# EAGLE library part AK4117 (library akm)
Digital Audio Receiver (DIR) Low Power, 24-Bit, 192 kHz
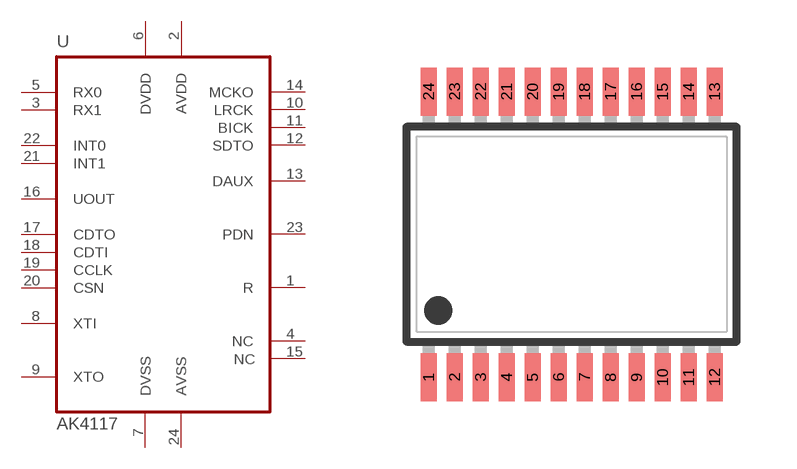
[diagram p7: symbol with the pads of VSOP24; footprint VSOP24]

Designator prefix U

## AK4117  [VSOP24]
1  R  pas
2  AVDD  pwr
3  RX1  in
4  NC  in
5  RX0  in
6  DVDD  pwr
7  DVSS  pwr
8  XTI  in
9  XTO  out
10  LRCK
11  BICK
12  SDTO  out
13  DAUX  out
14  MCKO  in
15  NC1  in
16  UOUT  out
17  CDTO  out
18  CDTI  in
19  CCLK  in
20  CSN  in
21  INT1  out
22  INT0  out
23  PDN  in
24  AVSS  pwr

## Footprint VSOP24 (pad centres in mm)
VSOP24 7.8 x 5.6 mm, pitch .65 mm
smd 0.4 x 1.2: 1 -3.575,-3.57; 2 -2.925,-3.57; 3 -2.275,-3.57; 4 -1.625,-3.57; 5 -0.975,-3.57; 6 -0.325,-3.57; 7 0.325,-3.57; 8 0.975,-3.57; 9 1.625,-3.57; 10 2.275,-3.57; 11 2.925,-3.57; 12 3.575,-3.57; 13 3.575,3.57; 14 2.925,3.57; 15 2.275,3.57; 16 1.625,3.57; 17 0.975,3.57; 18 0.325,3.57; 19 -0.325,3.57; 20 -0.975,3.57; 21 -1.625,3.57; 22 -2.275,3.57; 23 -2.925,3.57; 24 -3.575,3.57